# EAGLE library part 74HC4067 (library Traficon)
16 channel analog multiplexer/demultiplexer
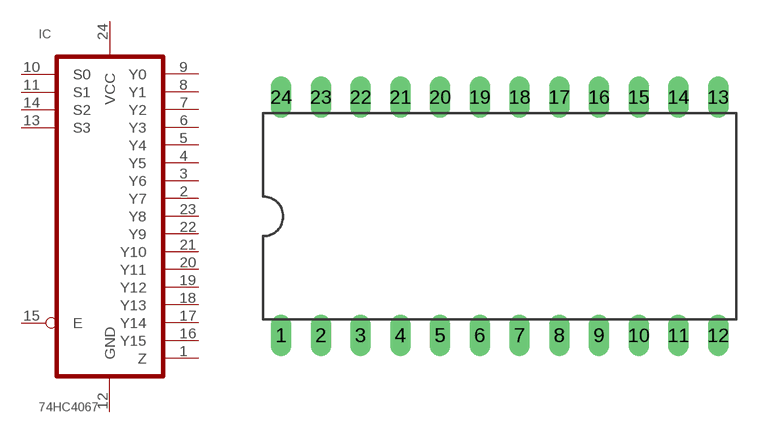
[diagram p25: symbol with the pads of DIL24-6; footprint DIL24-6]

Designator prefix IC

## 74HC4067  [DIL24-6]
1  Z
2  Y7
3  Y6
4  Y5
5  Y4
6  Y3
7  Y2
8  Y1
9  Y0
10  S0  in
11  S1  in
12  GND  pwr
13  S3  in
14  S2  in
15  E  in
16  Y15
17  Y14
18  Y13
19  Y12
20  Y11
21  Y10
22  Y9
23  Y8
24  VCC  pwr

## Footprint DIL24-6 (pad centres in mm)
drill 0.813 long: 1 -12.7,-7.62; 2 -10.16,-7.62; 3 -7.62,-7.62; 4 -5.08,-7.62; 5 -2.54,-7.62; 6 0,-7.62; 7 2.54,-7.62; 8 5.08,-7.62; 9 7.62,-7.62; 10 10.16,-7.62; 11 12.7,-7.62; 12 15.24,-7.62; 13 15.24,7.62; 14 12.7,7.62; 15 10.16,7.62; 16 7.62,7.62; 17 5.08,7.62; 18 2.54,7.62; 19 0,7.62; 20 -2.54,7.62; 21 -5.08,7.62; 22 -7.62,7.62; 23 -10.16,7.62; 24 -12.7,7.62